# EAGLE library part M20-7910642R (library KVB-connectors)
6 Position Receptacle Connector 0.100" (2.54mm) Surface Mount, Right Angle Gold Mate: M20-8900605
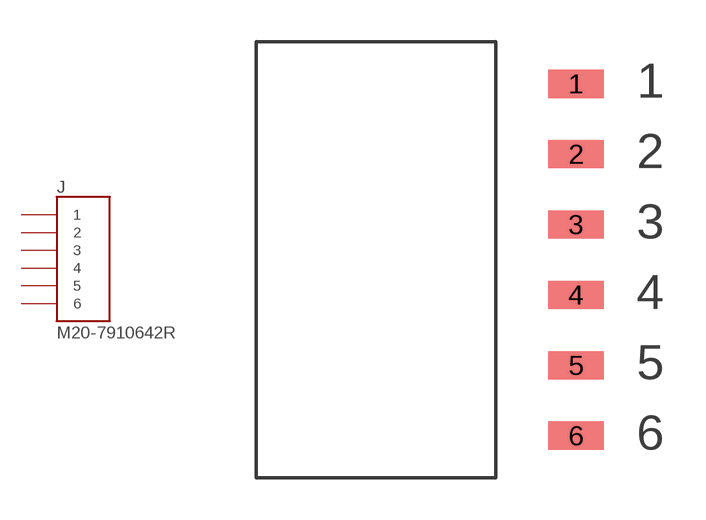
[diagram p19: symbol with the pads of M20-7910642R; footprint M20-7910642R]

Designator prefix J

## M20-7910642R (MAN-PART_NUM: M20-7910642R; MANUFACTURER: Harwin Inc.)  [M20-7910642R]
1  1
2  2
3  3
4  4
5  5
6  6

## Footprint M20-7910642R (pad centres in mm)
smd 2 x 1.02: 1 11.4,6.35; 2 11.4,3.81; 3 11.4,1.27; 4 11.4,-1.27; 5 11.4,-3.81; 6 11.4,-6.35